# EAGLE library part WE-MCA_7488910092 (library Wurth_Elektronik_Passive_rev15d)
Multilayer Chip Antenna Characteristics SMD Multilayer Chip Antenna Extremely low profile Very light component Power capacity: 5 W max. Omni-directional Operating temperature: –40 °C to +85 °C High gain Applications applications WLAN Home RF (868 MHz) Bluetooth applications GSM 900 ISM 868/2400 <http://katalog.we-online.de/media/images/eisos/RfMCA_pf2.jpg> Details see: http://katalog.we-online.de/en/pbs/WE-MCA? Updated by Dan Xu 2014-07-08 2014 (C) Wurth Elektronik
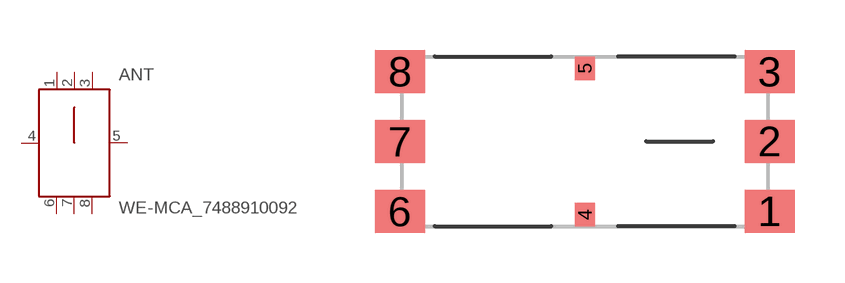
[diagram p16: symbol with the pads of WE-MCA_7488910092; footprint WE-MCA_7488910092]

Designator prefix ANT

## WE-MCA_7488910092_7488910092  [WE-MCA_7488910092]
1  NC  nc
2  FD  pas
3  NC  nc
4  NC  nc
5  NC  nc
6  NC  nc
7  NC  nc
8  NC  nc

## Footprint WE-MCA_7488910092 (pad centres in mm)
Multilayer Chip Antenna WE-MCA
smd 1.5 x 1.3: 1 5.55,-2.1; 2 5.55,0; 3 5.55,2.1; 6 -5.55,-2.1; 7 -5.55,0; 8 -5.55,2.1
smd 0.6 x 0.7: 4 0,-2.2; 5 0,2.2